# Altium schematic symbol library BC547.SchLib: 1 symbol
Pins are listed as number, name and electrical type; pins without a type are passive.

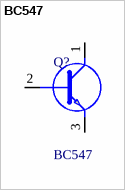
[diagram p0: symbol BC547]

## BC547
designator Q?
NPN Epitaxial Silicon Transistor, To-92, 100mA, 6V; Manufacturer_Name: Rochester Electronics; Geometry.Height: 4.78mm; Manufacturer_Part_Number: BC547; Mouser Part Number: *; Mouser Price/Stock: *; Arrow Part Number: *; Arrow Price/Stock: *; Datasheet Link: *
footprint BC547
pins: 1 C, 2 B, 3 E